# Altium integrated library Linear Technology Power Management System Supervisor, Monitor and Control.IntLib: 1611 symbols (part 28 of 100)
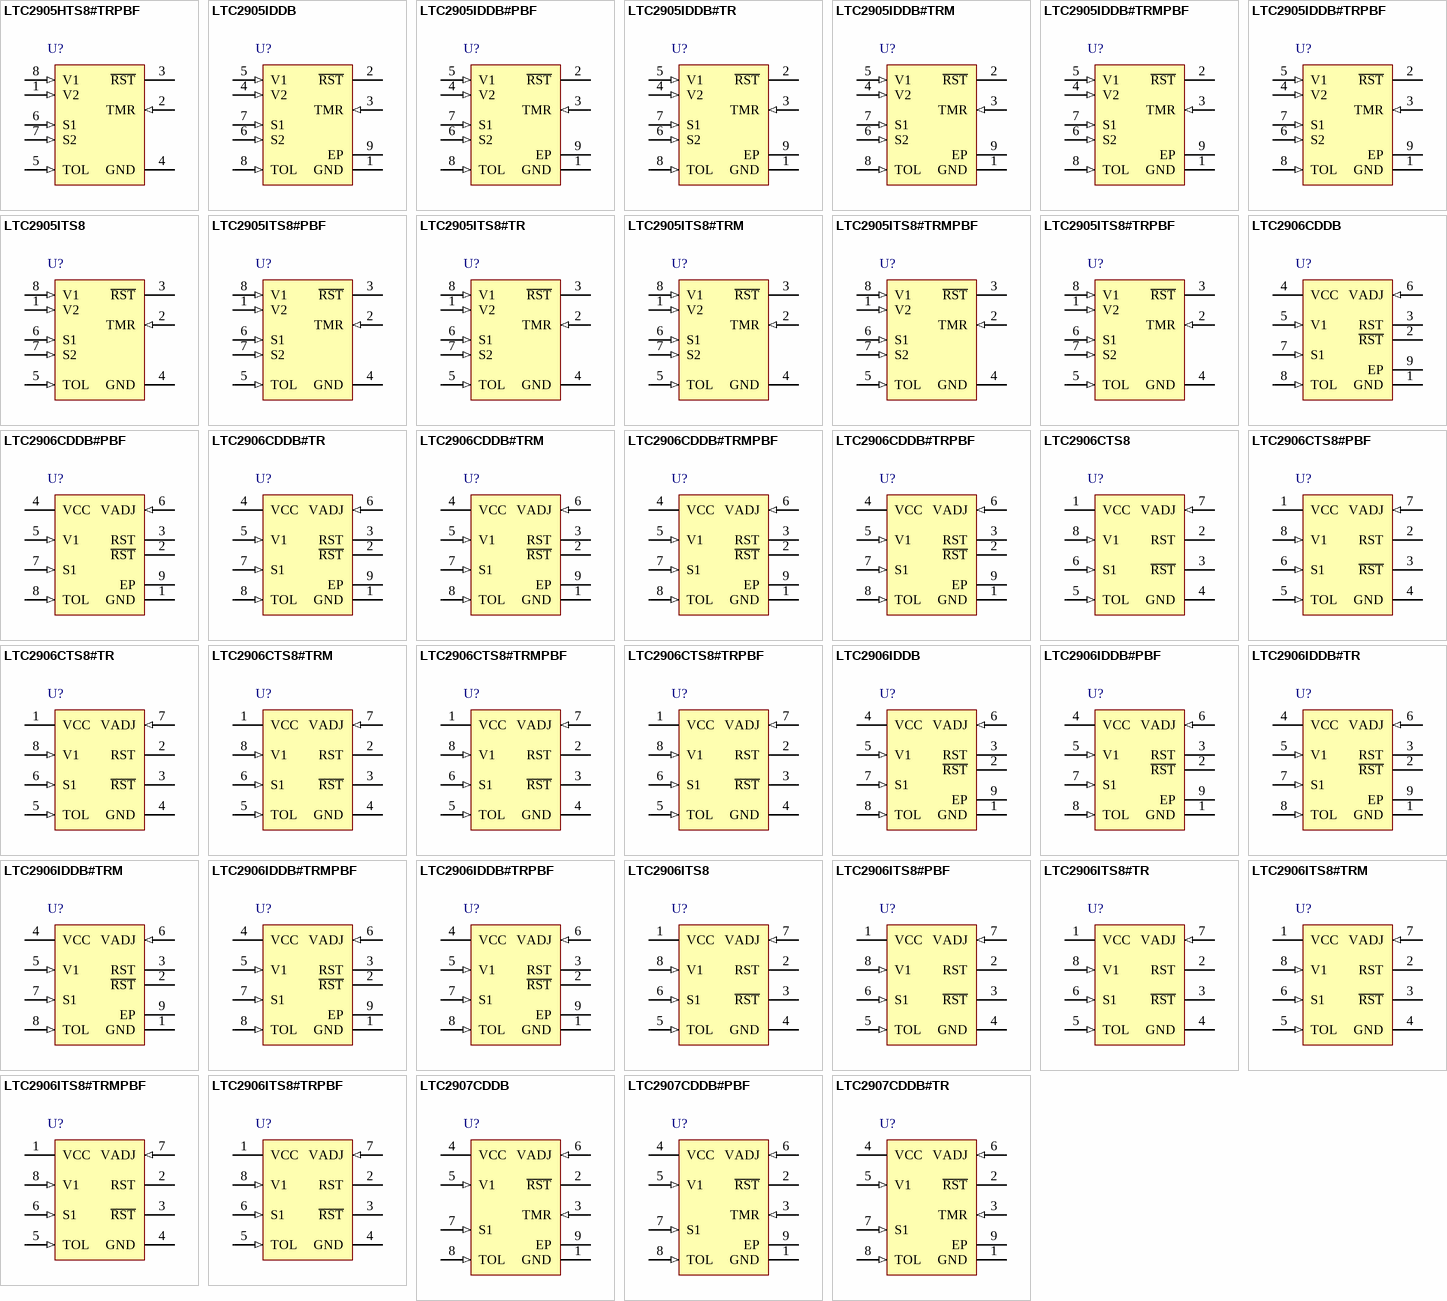
[diagram p72: symbols LTC2905HTS8#TRPBF to LTC2907CDDB#TR]

## LTC2906ITS8#TRMPBF
designator U?
Precision Dual Supply Monitor with One Pin-Selectable Threshold and One Adjustable Input, 8-pin SOT23 (TS8-8), -40 to 85 degC, Pb-Free, Mini Tape and Reel; Manufacturer: Linear Technology; PartNumber: LTC2906ITS8#TRMPBF; Number of Supplies(#): 2; PackageVersion: Rev. A, 08/2010; PackageReference: TS8-8; PackageDescription: 8-Pin Plastic TSOT-23, Body 2.9 x 1.63 mm, Pitch 0.65 mm; Supplier 1: Digi-Key; Supplier Part Number 1: LTC2906ITS8#TRMPBF-ND; Packing: Mini Tape and Reel; RoHS: TRUE; Mounting Technology: Surface Mount; Code_JEDEC: MO-193; ComponentLink1Description: Manufacturer URL; ComponentLink1URL: http://www.linear.com/; ComponentLink2Description: Datasheet; ComponentLink2URL: http://cds.linear.com/docs/en/datasheet/29067f.pdf; ComponentLink3Description: Package Specification; ComponentLink3URL: http://cds.linear.com/docs/en/packaging/SOT_8_05-08-1637.pdf
footprint LT-TS8-8-TSOT-23_V (SOT23, 8-Leads, Body 2.9x1.75mm, Pitch 0.65mm)
pins: 1 VCC (power) "Optional Power Supply Pin. VCC powers and maintains the correct operation of the RST and R\S\T\ pins in the complete absence of V1. If V1 is present, the greater of VCC or V1 (VMAX) powers the internal circuitry and the (See Datasheet)", 2 RST (oc) "(LTC2906 Only) Reset Logic Output. When all voltage inputs are above the reset threshold for at least the programmed delay time, this pin pulls low. This pin has a weak pull up to VMAX and may be pulled above VMAX using an (See Datasheet)", 3 ~{RST} (oc) "Inverted Reset Logic Output. Pulls low when either V1 or VADJ is below the reset threshold and holds low for programmed delay time after all voltage inputs are above threshold. This pin has a weak pull up to VMAX and may be (See Datasheet)", 4 GND (power) "Ground.", 5 TOL (in) "Three-State Input for Supply Tolerance Selection (5%, 7.5% or 10%). Refer to Applications Information for tolerance selection chart (Table 3).", 6 S1 (in) "The Voltage Threshold Select Three- State Input. Connect to V1, GND or leave unconnected in open state to select one of three possible input threshold levels (refer to Table 1).", 7 VADJ (in) "Adjustable Voltage Input. Bypass this pin to ground with a 0.1uF (or greater) capacitor in a noisy environment.", 8 V1 (in) "Voltage Input 1. Select from 5V, 3.3V or 2.5V. Refer to Table 1 for details. The greater of (V1, VCC) is also the internal VCC (VMAX). Bypass this pin to ground with a 0.1uF (or greater) capacitor."

## LTC2906ITS8#TRPBF
designator U?
Precision Dual Supply Monitor with One Pin-Selectable Threshold and One Adjustable Input, 8-pin SOT23 (TS8-8), -40 to 85 degC, Pb-Free, Tape and Reel; Manufacturer: Linear Technology; PartNumber: LTC2906ITS8#TRPBF; Number of Supplies(#): 2; PackageVersion: Rev. A, 08/2010; PackageReference: TS8-8; PackageDescription: 8-Pin Plastic TSOT-23, Body 2.9 x 1.63 mm, Pitch 0.65 mm; Supplier 1: Digi-Key; Supplier Part Number 1: LTC2906ITS8#TRPBF-ND; Supplier 2: Newark; Supplier Part Number 2: 56M6706; Packing: Tape and Reel; RoHS: TRUE; Mounting Technology: Surface Mount; Code_JEDEC: MO-193; ComponentLink1Description: Manufacturer URL; ComponentLink1URL: http://www.linear.com/; ComponentLink2Description: Datasheet; ComponentLink2URL: http://cds.linear.com/docs/en/datasheet/29067f.pdf; ComponentLink3Description: Package Specification; ComponentLink3URL: http://cds.linear.com/docs/en/packaging/SOT_8_05-08-1637.pdf
footprint LT-TS8-8-TSOT-23_V (SOT23, 8-Leads, Body 2.9x1.75mm, Pitch 0.65mm)
pins: 1 VCC (power) "Optional Power Supply Pin. VCC powers and maintains the correct operation of the RST and R\S\T\ pins in the complete absence of V1. If V1 is present, the greater of VCC or V1 (VMAX) powers the internal circuitry and the (See Datasheet)", 2 RST (oc) "(LTC2906 Only) Reset Logic Output. When all voltage inputs are above the reset threshold for at least the programmed delay time, this pin pulls low. This pin has a weak pull up to VMAX and may be pulled above VMAX using an (See Datasheet)", 3 ~{RST} (oc) "Inverted Reset Logic Output. Pulls low when either V1 or VADJ is below the reset threshold and holds low for programmed delay time after all voltage inputs are above threshold. This pin has a weak pull up to VMAX and may be (See Datasheet)", 4 GND (power) "Ground.", 5 TOL (in) "Three-State Input for Supply Tolerance Selection (5%, 7.5% or 10%). Refer to Applications Information for tolerance selection chart (Table 3).", 6 S1 (in) "The Voltage Threshold Select Three- State Input. Connect to V1, GND or leave unconnected in open state to select one of three possible input threshold levels (refer to Table 1).", 7 VADJ (in) "Adjustable Voltage Input. Bypass this pin to ground with a 0.1uF (or greater) capacitor in a noisy environment.", 8 V1 (in) "Voltage Input 1. Select from 5V, 3.3V or 2.5V. Refer to Table 1 for details. The greater of (V1, VCC) is also the internal VCC (VMAX). Bypass this pin to ground with a 0.1uF (or greater) capacitor."

## LTC2907CDDB
designator U?
Precision Dual Supply Monitor with One Pin-Selectable Threshold and One Adjustable Input, 8-pin SON (DDB-8), 0 to 70 degC; Manufacturer: Linear Technology; PartNumber: LTC2907CDDB; Number of Supplies(#): 2; PackageVersion: Rev. B, 06/2010; PackageReference: DDB-8; PackageDescription: 8-Pin Plastic DFN, Body 3 x 2 mm, Pitch 0.5 mm; RoHS: FALSE; Mounting Technology: Surface Mount; Code_JEDEC: MO-229; ComponentLink1Description: Manufacturer URL; ComponentLink1URL: http://www.linear.com/; ComponentLink2Description: Datasheet; ComponentLink2URL: http://cds.linear.com/docs/en/datasheet/29067f.pdf; ComponentLink3Description: Package Specification; ComponentLink3URL: http://cds.linear.com/docs/en/packaging/DFN_8_05-08-1702.pdf
footprint LT-DDB-8_V (SON, 8-Leads, Body 3x2mm, Pitch 0.5mm, Thermal Pad 2.2x0.61mm)
pins: 1 GND (power) "Ground.", 2 ~{RST} (oc) "Inverted Reset Logic Output. Pulls low when either V1 or VADJ is below the reset threshold and holds low for programmed delay time after all voltage inputs are above threshold. This pin has a weak pull up to VMAX and may be (See Datasheet)", 3 TMR (in) "(LTC2907 Only) Reset Delay Time Programming Pin. Attach an external capacitor (CTMR) to GND to set a reset delay time of 9ms/nF. Leaving the pin open generates a minimum delay of approximately 200ms. A 22nF capacitor will (See Datasheet)", 4 VCC (power) "Optional Power Supply Pin. VCC powers and maintains the correct operation of the RST and R\S\T\ pins in the complete absence of V1. If V1 is present, the greater of VCC or V1 (VMAX) powers the internal circuitry and the (See Datasheet)", 5 V1 (in) "Voltage Input 1. Select from 5V, 3.3V or 2.5V. Refer to Table 1 for details. The greater of (V1, VCC) is also the internal VCC (VMAX). Bypass this pin to ground with a 0.1uF (or greater) capacitor.", 6 VADJ (in) "Adjustable Voltage Input. Bypass this pin to ground with a 0.1uF (or greater) capacitor in a noisy environment.", 7 S1 (in) "The Voltage Threshold Select Three- State Input. Connect to V1, GND or leave unconnected in open state to select one of three possible input threshold levels (refer to Table 1).", 8 TOL (in) "Three-State Input for Supply Tolerance Selection (5%, 7.5% or 10%). Refer to Applications Information for tolerance selection chart (Table 3).", 9 EP (power) "Ground."

## LTC2907CDDB#PBF
designator U?
Precision Dual Supply Monitor with One Pin-Selectable Threshold and One Adjustable Input, 8-pin SON (DDB-8), 0 to 70 degC, Pb-Free; Manufacturer: Linear Technology; PartNumber: LTC2907CDDB#PBF; Number of Supplies(#): 2; PackageVersion: Rev. B, 06/2010; PackageReference: DDB-8; PackageDescription: 8-Pin Plastic DFN, Body 3 x 2 mm, Pitch 0.5 mm; Supplier 1: Newark; Supplier Part Number 1: 78T3006; RoHS: TRUE; Mounting Technology: Surface Mount; Code_JEDEC: MO-229; ComponentLink1Description: Manufacturer URL; ComponentLink1URL: http://www.linear.com/; ComponentLink2Description: Datasheet; ComponentLink2URL: http://cds.linear.com/docs/en/datasheet/29067f.pdf; ComponentLink3Description: Package Specification; ComponentLink3URL: http://cds.linear.com/docs/en/packaging/DFN_8_05-08-1702.pdf
footprint LT-DDB-8_V (SON, 8-Leads, Body 3x2mm, Pitch 0.5mm, Thermal Pad 2.2x0.61mm)
pins: 1 GND (power) "Ground.", 2 ~{RST} (oc) "Inverted Reset Logic Output. Pulls low when either V1 or VADJ is below the reset threshold and holds low for programmed delay time after all voltage inputs are above threshold. This pin has a weak pull up to VMAX and may be (See Datasheet)", 3 TMR (in) "(LTC2907 Only) Reset Delay Time Programming Pin. Attach an external capacitor (CTMR) to GND to set a reset delay time of 9ms/nF. Leaving the pin open generates a minimum delay of approximately 200ms. A 22nF capacitor will (See Datasheet)", 4 VCC (power) "Optional Power Supply Pin. VCC powers and maintains the correct operation of the RST and R\S\T\ pins in the complete absence of V1. If V1 is present, the greater of VCC or V1 (VMAX) powers the internal circuitry and the (See Datasheet)", 5 V1 (in) "Voltage Input 1. Select from 5V, 3.3V or 2.5V. Refer to Table 1 for details. The greater of (V1, VCC) is also the internal VCC (VMAX). Bypass this pin to ground with a 0.1uF (or greater) capacitor.", 6 VADJ (in) "Adjustable Voltage Input. Bypass this pin to ground with a 0.1uF (or greater) capacitor in a noisy environment.", 7 S1 (in) "The Voltage Threshold Select Three- State Input. Connect to V1, GND or leave unconnected in open state to select one of three possible input threshold levels (refer to Table 1).", 8 TOL (in) "Three-State Input for Supply Tolerance Selection (5%, 7.5% or 10%). Refer to Applications Information for tolerance selection chart (Table 3).", 9 EP (power) "Ground."

## LTC2907CDDB#TR
designator U?
Precision Dual Supply Monitor with One Pin-Selectable Threshold and One Adjustable Input, 8-pin SON (DDB-8), 0 to 70 degC, Tape and Reel; Manufacturer: Linear Technology; PartNumber: LTC2907CDDB#TR; Number of Supplies(#): 2; PackageVersion: Rev. B, 06/2010; PackageReference: DDB-8; PackageDescription: 8-Pin Plastic DFN, Body 3 x 2 mm, Pitch 0.5 mm; Supplier 1: Digi-Key; Supplier Part Number 1: LTC2907CDDB#TR-ND; Packing: Tape and Reel; RoHS: FALSE; Mounting Technology: Surface Mount; Code_JEDEC: MO-229; ComponentLink1Description: Manufacturer URL; ComponentLink1URL: http://www.linear.com/; ComponentLink2Description: Datasheet; ComponentLink2URL: http://cds.linear.com/docs/en/datasheet/29067f.pdf; ComponentLink3Description: Package Specification; ComponentLink3URL: http://cds.linear.com/docs/en/packaging/DFN_8_05-08-1702.pdf
footprint LT-DDB-8_V (SON, 8-Leads, Body 3x2mm, Pitch 0.5mm, Thermal Pad 2.2x0.61mm)
pins: 1 GND (power) "Ground.", 2 ~{RST} (oc) "Inverted Reset Logic Output. Pulls low when either V1 or VADJ is below the reset threshold and holds low for programmed delay time after all voltage inputs are above threshold. This pin has a weak pull up to VMAX and may be (See Datasheet)", 3 TMR (in) "(LTC2907 Only) Reset Delay Time Programming Pin. Attach an external capacitor (CTMR) to GND to set a reset delay time of 9ms/nF. Leaving the pin open generates a minimum delay of approximately 200ms. A 22nF capacitor will (See Datasheet)", 4 VCC (power) "Optional Power Supply Pin. VCC powers and maintains the correct operation of the RST and R\S\T\ pins in the complete absence of V1. If V1 is present, the greater of VCC or V1 (VMAX) powers the internal circuitry and the (See Datasheet)", 5 V1 (in) "Voltage Input 1. Select from 5V, 3.3V or 2.5V. Refer to Table 1 for details. The greater of (V1, VCC) is also the internal VCC (VMAX). Bypass this pin to ground with a 0.1uF (or greater) capacitor.", 6 VADJ (in) "Adjustable Voltage Input. Bypass this pin to ground with a 0.1uF (or greater) capacitor in a noisy environment.", 7 S1 (in) "The Voltage Threshold Select Three- State Input. Connect to V1, GND or leave unconnected in open state to select one of three possible input threshold levels (refer to Table 1).", 8 TOL (in) "Three-State Input for Supply Tolerance Selection (5%, 7.5% or 10%). Refer to Applications Information for tolerance selection chart (Table 3).", 9 EP (power) "Ground."

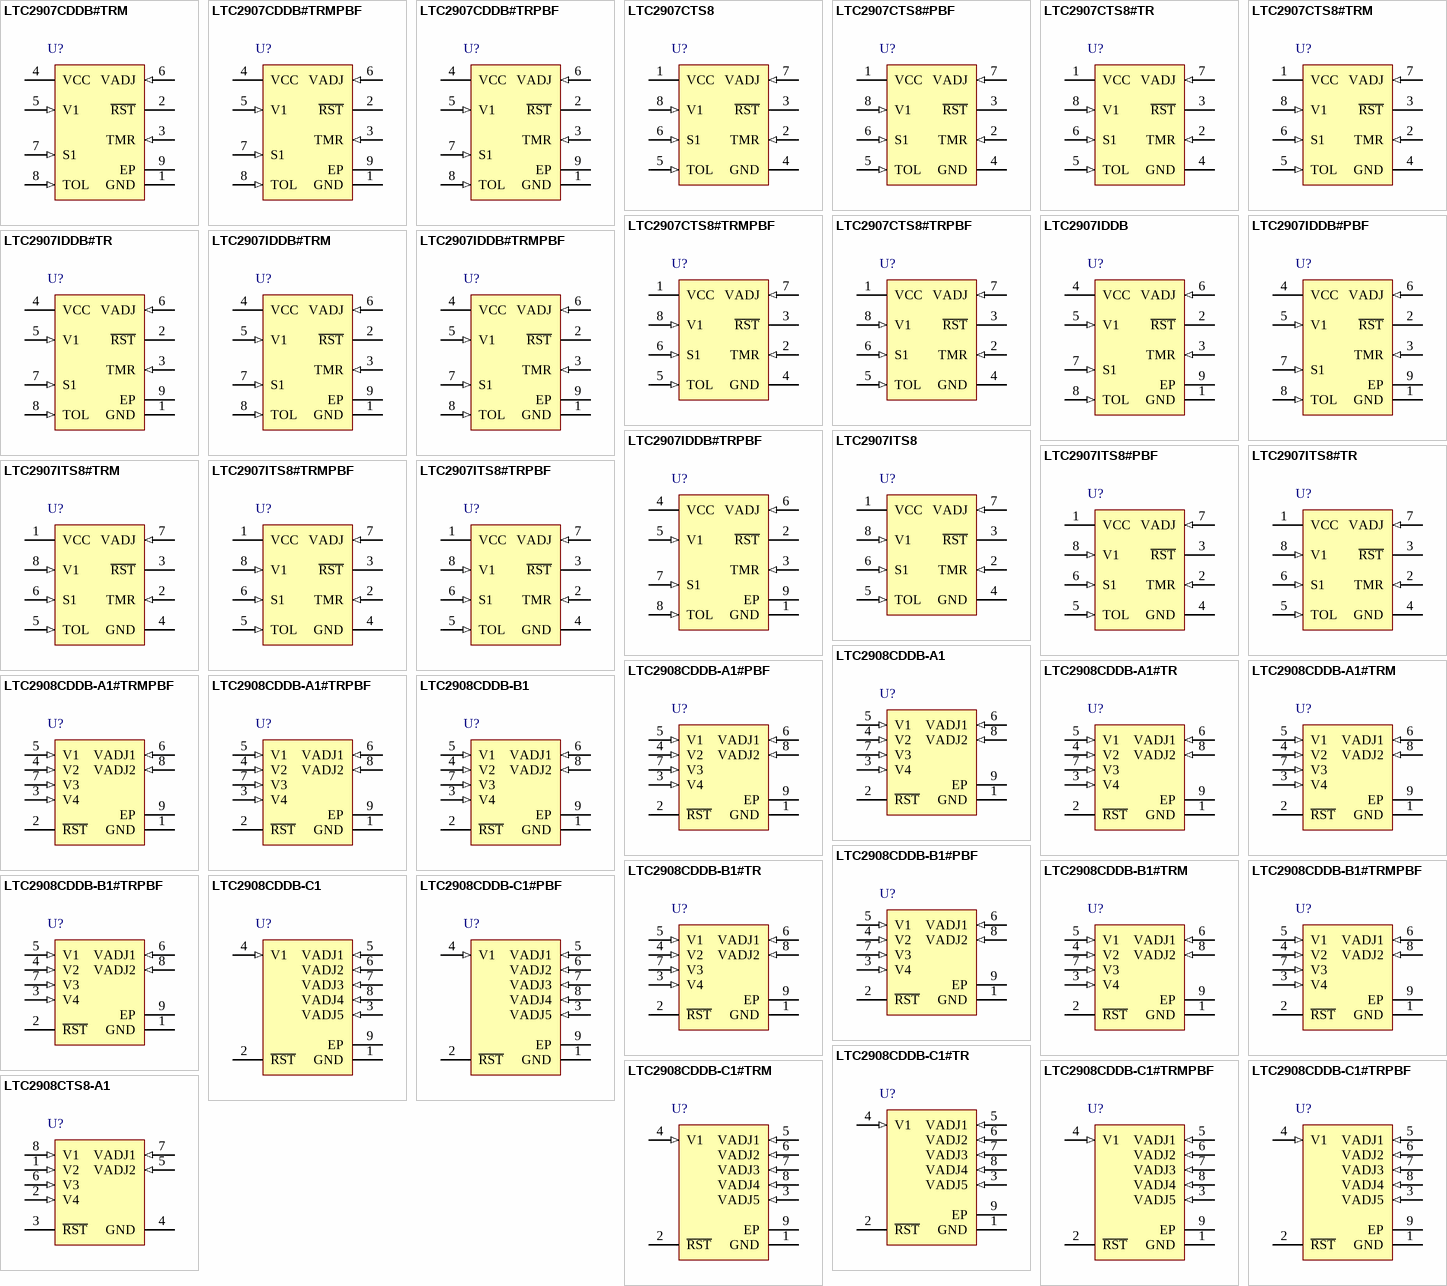
[diagram p14: symbols LTC2907CDDB#TRM to LTC2908CTS8-A1]

## LTC2907CDDB#TRM
designator U?
Precision Dual Supply Monitor with One Pin-Selectable Threshold and One Adjustable Input, 8-pin SON (DDB-8), 0 to 70 degC, Mini Tape and Reel; Manufacturer: Linear Technology; PartNumber: LTC2907CDDB#TRM; Number of Supplies(#): 2; PackageVersion: Rev. B, 06/2010; PackageReference: DDB-8; PackageDescription: 8-Pin Plastic DFN, Body 3 x 2 mm, Pitch 0.5 mm; Packing: Mini Tape and Reel; RoHS: FALSE; Mounting Technology: Surface Mount; Code_JEDEC: MO-229; ComponentLink1Description: Manufacturer URL; ComponentLink1URL: http://www.linear.com/; ComponentLink2Description: Datasheet; ComponentLink2URL: http://cds.linear.com/docs/en/datasheet/29067f.pdf; ComponentLink3Description: Package Specification; ComponentLink3URL: http://cds.linear.com/docs/en/packaging/DFN_8_05-08-1702.pdf
footprint LT-DDB-8_V (SON, 8-Leads, Body 3x2mm, Pitch 0.5mm, Thermal Pad 2.2x0.61mm)
pins: 1 GND (power) "Ground.", 2 ~{RST} (oc) "Inverted Reset Logic Output. Pulls low when either V1 or VADJ is below the reset threshold and holds low for programmed delay time after all voltage inputs are above threshold. This pin has a weak pull up to VMAX and may be (See Datasheet)", 3 TMR (in) "(LTC2907 Only) Reset Delay Time Programming Pin. Attach an external capacitor (CTMR) to GND to set a reset delay time of 9ms/nF. Leaving the pin open generates a minimum delay of approximately 200ms. A 22nF capacitor will (See Datasheet)", 4 VCC (power) "Optional Power Supply Pin. VCC powers and maintains the correct operation of the RST and R\S\T\ pins in the complete absence of V1. If V1 is present, the greater of VCC or V1 (VMAX) powers the internal circuitry and the (See Datasheet)", 5 V1 (in) "Voltage Input 1. Select from 5V, 3.3V or 2.5V. Refer to Table 1 for details. The greater of (V1, VCC) is also the internal VCC (VMAX). Bypass this pin to ground with a 0.1uF (or greater) capacitor.", 6 VADJ (in) "Adjustable Voltage Input. Bypass this pin to ground with a 0.1uF (or greater) capacitor in a noisy environment.", 7 S1 (in) "The Voltage Threshold Select Three- State Input. Connect to V1, GND or leave unconnected in open state to select one of three possible input threshold levels (refer to Table 1).", 8 TOL (in) "Three-State Input for Supply Tolerance Selection (5%, 7.5% or 10%). Refer to Applications Information for tolerance selection chart (Table 3).", 9 EP (power) "Ground."

## LTC2907CDDB#TRMPBF
designator U?
Precision Dual Supply Monitor with One Pin-Selectable Threshold and One Adjustable Input, 8-pin SON (DDB-8), 0 to 70 degC, Pb-Free, Mini Tape and Reel; Manufacturer: Linear Technology; PartNumber: LTC2907CDDB#TRMPBF; Number of Supplies(#): 2; PackageVersion: Rev. B, 06/2010; PackageReference: DDB-8; PackageDescription: 8-Pin Plastic DFN, Body 3 x 2 mm, Pitch 0.5 mm; Supplier 1: Digi-Key; Supplier Part Number 1: LTC2907CDDB#TRMPBF-ND; Packing: Mini Tape and Reel; RoHS: TRUE; Mounting Technology: Surface Mount; Code_JEDEC: MO-229; ComponentLink1Description: Manufacturer URL; ComponentLink1URL: http://www.linear.com/; ComponentLink2Description: Datasheet; ComponentLink2URL: http://cds.linear.com/docs/en/datasheet/29067f.pdf; ComponentLink3Description: Package Specification; ComponentLink3URL: http://cds.linear.com/docs/en/packaging/DFN_8_05-08-1702.pdf
footprint LT-DDB-8_V (SON, 8-Leads, Body 3x2mm, Pitch 0.5mm, Thermal Pad 2.2x0.61mm)
pins: 1 GND (power) "Ground.", 2 ~{RST} (oc) "Inverted Reset Logic Output. Pulls low when either V1 or VADJ is below the reset threshold and holds low for programmed delay time after all voltage inputs are above threshold. This pin has a weak pull up to VMAX and may be (See Datasheet)", 3 TMR (in) "(LTC2907 Only) Reset Delay Time Programming Pin. Attach an external capacitor (CTMR) to GND to set a reset delay time of 9ms/nF. Leaving the pin open generates a minimum delay of approximately 200ms. A 22nF capacitor will (See Datasheet)", 4 VCC (power) "Optional Power Supply Pin. VCC powers and maintains the correct operation of the RST and R\S\T\ pins in the complete absence of V1. If V1 is present, the greater of VCC or V1 (VMAX) powers the internal circuitry and the (See Datasheet)", 5 V1 (in) "Voltage Input 1. Select from 5V, 3.3V or 2.5V. Refer to Table 1 for details. The greater of (V1, VCC) is also the internal VCC (VMAX). Bypass this pin to ground with a 0.1uF (or greater) capacitor.", 6 VADJ (in) "Adjustable Voltage Input. Bypass this pin to ground with a 0.1uF (or greater) capacitor in a noisy environment.", 7 S1 (in) "The Voltage Threshold Select Three- State Input. Connect to V1, GND or leave unconnected in open state to select one of three possible input threshold levels (refer to Table 1).", 8 TOL (in) "Three-State Input for Supply Tolerance Selection (5%, 7.5% or 10%). Refer to Applications Information for tolerance selection chart (Table 3).", 9 EP (power) "Ground."

## LTC2907CDDB#TRPBF
designator U?
Precision Dual Supply Monitor with One Pin-Selectable Threshold and One Adjustable Input, 8-pin SON (DDB-8), 0 to 70 degC, Pb-Free, Tape and Reel; Manufacturer: Linear Technology; PartNumber: LTC2907CDDB#TRPBF; Number of Supplies(#): 2; PackageVersion: Rev. B, 06/2010; PackageReference: DDB-8; PackageDescription: 8-Pin Plastic DFN, Body 3 x 2 mm, Pitch 0.5 mm; Supplier 1: Digi-Key; Supplier Part Number 1: LTC2907CDDB#TRPBF-ND; Packing: Tape and Reel; RoHS: TRUE; Mounting Technology: Surface Mount; Code_JEDEC: MO-229; ComponentLink1Description: Manufacturer URL; ComponentLink1URL: http://www.linear.com/; ComponentLink2Description: Datasheet; ComponentLink2URL: http://cds.linear.com/docs/en/datasheet/29067f.pdf; ComponentLink3Description: Package Specification; ComponentLink3URL: http://cds.linear.com/docs/en/packaging/DFN_8_05-08-1702.pdf
footprint LT-DDB-8_V (SON, 8-Leads, Body 3x2mm, Pitch 0.5mm, Thermal Pad 2.2x0.61mm)
pins: 1 GND (power) "Ground.", 2 ~{RST} (oc) "Inverted Reset Logic Output. Pulls low when either V1 or VADJ is below the reset threshold and holds low for programmed delay time after all voltage inputs are above threshold. This pin has a weak pull up to VMAX and may be (See Datasheet)", 3 TMR (in) "(LTC2907 Only) Reset Delay Time Programming Pin. Attach an external capacitor (CTMR) to GND to set a reset delay time of 9ms/nF. Leaving the pin open generates a minimum delay of approximately 200ms. A 22nF capacitor will (See Datasheet)", 4 VCC (power) "Optional Power Supply Pin. VCC powers and maintains the correct operation of the RST and R\S\T\ pins in the complete absence of V1. If V1 is present, the greater of VCC or V1 (VMAX) powers the internal circuitry and the (See Datasheet)", 5 V1 (in) "Voltage Input 1. Select from 5V, 3.3V or 2.5V. Refer to Table 1 for details. The greater of (V1, VCC) is also the internal VCC (VMAX). Bypass this pin to ground with a 0.1uF (or greater) capacitor.", 6 VADJ (in) "Adjustable Voltage Input. Bypass this pin to ground with a 0.1uF (or greater) capacitor in a noisy environment.", 7 S1 (in) "The Voltage Threshold Select Three- State Input. Connect to V1, GND or leave unconnected in open state to select one of three possible input threshold levels (refer to Table 1).", 8 TOL (in) "Three-State Input for Supply Tolerance Selection (5%, 7.5% or 10%). Refer to Applications Information for tolerance selection chart (Table 3).", 9 EP (power) "Ground."

## LTC2907CTS8
designator U?
Precision Dual Supply Monitor with One Pin-Selectable Threshold and One Adjustable Input, 8-pin SOT23 (TS8-8), 0 to 70 degC; Manufacturer: Linear Technology; PartNumber: LTC2907CTS8; Number of Supplies(#): 2; PackageVersion: Rev. A, 08/2010; PackageReference: TS8-8; PackageDescription: 8-Pin Plastic TSOT-23, Body 2.9 x 1.63 mm, Pitch 0.65 mm; RoHS: FALSE; Mounting Technology: Surface Mount; Code_JEDEC: MO-193; ComponentLink1Description: Manufacturer URL; ComponentLink1URL: http://www.linear.com/; ComponentLink2Description: Datasheet; ComponentLink2URL: http://cds.linear.com/docs/en/datasheet/29067f.pdf; ComponentLink3Description: Package Specification; ComponentLink3URL: http://cds.linear.com/docs/en/packaging/SOT_8_05-08-1637.pdf
footprint LT-TS8-8-TSOT-23_V (SOT23, 8-Leads, Body 2.9x1.75mm, Pitch 0.65mm)
pins: 1 VCC (power) "Optional Power Supply Pin. VCC powers and maintains the correct operation of the RST and R\S\T\ pins in the complete absence of V1. If V1 is present, the greater of VCC or V1 (VMAX) powers the internal circuitry and the (See Datasheet)", 2 TMR (in) "(LTC2907 Only) Reset Delay Time Programming Pin. Attach an external capacitor (CTMR) to GND to set a reset delay time of 9ms/nF. Leaving the pin open generates a minimum delay of approximately 200ms. A 22nF capacitor will (See Datasheet)", 3 ~{RST} (oc) "Inverted Reset Logic Output. Pulls low when either V1 or VADJ is below the reset threshold and holds low for programmed delay time after all voltage inputs are above threshold. This pin has a weak pull up to VMAX and may be (See Datasheet)", 4 GND (power) "Ground.", 5 TOL (in) "Three-State Input for Supply Tolerance Selection (5%, 7.5% or 10%). Refer to Applications Information for tolerance selection chart (Table 3).", 6 S1 (in) "The Voltage Threshold Select Three- State Input. Connect to V1, GND or leave unconnected in open state to select one of three possible input threshold levels (refer to Table 1).", 7 VADJ (in) "Adjustable Voltage Input. Bypass this pin to ground with a 0.1uF (or greater) capacitor in a noisy environment.", 8 V1 (in) "Voltage Input 1. Select from 5V, 3.3V or 2.5V. Refer to Table 1 for details. The greater of (V1, VCC) is also the internal VCC (VMAX). Bypass this pin to ground with a 0.1uF (or greater) capacitor."

## LTC2907CTS8#PBF
designator U?
Precision Dual Supply Monitor with One Pin-Selectable Threshold and One Adjustable Input, 8-pin SOT23 (TS8-8), 0 to 70 degC, Pb-Free; Manufacturer: Linear Technology; PartNumber: LTC2907CTS8#PBF; Number of Supplies(#): 2; PackageVersion: Rev. A, 08/2010; PackageReference: TS8-8; PackageDescription: 8-Pin Plastic TSOT-23, Body 2.9 x 1.63 mm, Pitch 0.65 mm; Supplier 1: Farnell; Supplier Part Number 1: 2295409; RoHS: TRUE; Mounting Technology: Surface Mount; Code_JEDEC: MO-193; ComponentLink1Description: Manufacturer URL; ComponentLink1URL: http://www.linear.com/; ComponentLink2Description: Datasheet; ComponentLink2URL: http://cds.linear.com/docs/en/datasheet/29067f.pdf; ComponentLink3Description: Package Specification; ComponentLink3URL: http://cds.linear.com/docs/en/packaging/SOT_8_05-08-1637.pdf
footprint LT-TS8-8-TSOT-23_V (SOT23, 8-Leads, Body 2.9x1.75mm, Pitch 0.65mm)
pins: 1 VCC (power) "Optional Power Supply Pin. VCC powers and maintains the correct operation of the RST and R\S\T\ pins in the complete absence of V1. If V1 is present, the greater of VCC or V1 (VMAX) powers the internal circuitry and the (See Datasheet)", 2 TMR (in) "(LTC2907 Only) Reset Delay Time Programming Pin. Attach an external capacitor (CTMR) to GND to set a reset delay time of 9ms/nF. Leaving the pin open generates a minimum delay of approximately 200ms. A 22nF capacitor will (See Datasheet)", 3 ~{RST} (oc) "Inverted Reset Logic Output. Pulls low when either V1 or VADJ is below the reset threshold and holds low for programmed delay time after all voltage inputs are above threshold. This pin has a weak pull up to VMAX and may be (See Datasheet)", 4 GND (power) "Ground.", 5 TOL (in) "Three-State Input for Supply Tolerance Selection (5%, 7.5% or 10%). Refer to Applications Information for tolerance selection chart (Table 3).", 6 S1 (in) "The Voltage Threshold Select Three- State Input. Connect to V1, GND or leave unconnected in open state to select one of three possible input threshold levels (refer to Table 1).", 7 VADJ (in) "Adjustable Voltage Input. Bypass this pin to ground with a 0.1uF (or greater) capacitor in a noisy environment.", 8 V1 (in) "Voltage Input 1. Select from 5V, 3.3V or 2.5V. Refer to Table 1 for details. The greater of (V1, VCC) is also the internal VCC (VMAX). Bypass this pin to ground with a 0.1uF (or greater) capacitor."

## LTC2907CTS8#TR
designator U?
Precision Dual Supply Monitor with One Pin-Selectable Threshold and One Adjustable Input, 8-pin SOT23 (TS8-8), 0 to 70 degC, Tape and Reel; Manufacturer: Linear Technology; PartNumber: LTC2907CTS8#TR; Number of Supplies(#): 2; PackageVersion: Rev. A, 08/2010; PackageReference: TS8-8; PackageDescription: 8-Pin Plastic TSOT-23, Body 2.9 x 1.63 mm, Pitch 0.65 mm; Supplier 1: Digi-Key; Supplier Part Number 1: LTC2907CTS8#TR-ND; Packing: Tape and Reel; RoHS: FALSE; Mounting Technology: Surface Mount; Code_JEDEC: MO-193; ComponentLink1Description: Manufacturer URL; ComponentLink1URL: http://www.linear.com/; ComponentLink2Description: Datasheet; ComponentLink2URL: http://cds.linear.com/docs/en/datasheet/29067f.pdf; ComponentLink3Description: Package Specification; ComponentLink3URL: http://cds.linear.com/docs/en/packaging/SOT_8_05-08-1637.pdf
footprint LT-TS8-8-TSOT-23_V (SOT23, 8-Leads, Body 2.9x1.75mm, Pitch 0.65mm)
pins: 1 VCC (power) "Optional Power Supply Pin. VCC powers and maintains the correct operation of the RST and R\S\T\ pins in the complete absence of V1. If V1 is present, the greater of VCC or V1 (VMAX) powers the internal circuitry and the (See Datasheet)", 2 TMR (in) "(LTC2907 Only) Reset Delay Time Programming Pin. Attach an external capacitor (CTMR) to GND to set a reset delay time of 9ms/nF. Leaving the pin open generates a minimum delay of approximately 200ms. A 22nF capacitor will (See Datasheet)", 3 ~{RST} (oc) "Inverted Reset Logic Output. Pulls low when either V1 or VADJ is below the reset threshold and holds low for programmed delay time after all voltage inputs are above threshold. This pin has a weak pull up to VMAX and may be (See Datasheet)", 4 GND (power) "Ground.", 5 TOL (in) "Three-State Input for Supply Tolerance Selection (5%, 7.5% or 10%). Refer to Applications Information for tolerance selection chart (Table 3).", 6 S1 (in) "The Voltage Threshold Select Three- State Input. Connect to V1, GND or leave unconnected in open state to select one of three possible input threshold levels (refer to Table 1).", 7 VADJ (in) "Adjustable Voltage Input. Bypass this pin to ground with a 0.1uF (or greater) capacitor in a noisy environment.", 8 V1 (in) "Voltage Input 1. Select from 5V, 3.3V or 2.5V. Refer to Table 1 for details. The greater of (V1, VCC) is also the internal VCC (VMAX). Bypass this pin to ground with a 0.1uF (or greater) capacitor."

## LTC2907CTS8#TRM
designator U?
Precision Dual Supply Monitor with One Pin-Selectable Threshold and One Adjustable Input, 8-pin SOT23 (TS8-8), 0 to 70 degC, Mini Tape and Reel; Manufacturer: Linear Technology; PartNumber: LTC2907CTS8#TRM; Number of Supplies(#): 2; PackageVersion: Rev. A, 08/2010; PackageReference: TS8-8; PackageDescription: 8-Pin Plastic TSOT-23, Body 2.9 x 1.63 mm, Pitch 0.65 mm; Supplier 1: Digi-Key; Supplier Part Number 1: LTC2907CTS8#TRM-ND; Packing: Mini Tape and Reel; RoHS: FALSE; Mounting Technology: Surface Mount; Code_JEDEC: MO-193; ComponentLink1Description: Manufacturer URL; ComponentLink1URL: http://www.linear.com/; ComponentLink2Description: Datasheet; ComponentLink2URL: http://cds.linear.com/docs/en/datasheet/29067f.pdf; ComponentLink3Description: Package Specification; ComponentLink3URL: http://cds.linear.com/docs/en/packaging/SOT_8_05-08-1637.pdf
footprint LT-TS8-8-TSOT-23_V (SOT23, 8-Leads, Body 2.9x1.75mm, Pitch 0.65mm)
pins: 1 VCC (power) "Optional Power Supply Pin. VCC powers and maintains the correct operation of the RST and R\S\T\ pins in the complete absence of V1. If V1 is present, the greater of VCC or V1 (VMAX) powers the internal circuitry and the (See Datasheet)", 2 TMR (in) "(LTC2907 Only) Reset Delay Time Programming Pin. Attach an external capacitor (CTMR) to GND to set a reset delay time of 9ms/nF. Leaving the pin open generates a minimum delay of approximately 200ms. A 22nF capacitor will (See Datasheet)", 3 ~{RST} (oc) "Inverted Reset Logic Output. Pulls low when either V1 or VADJ is below the reset threshold and holds low for programmed delay time after all voltage inputs are above threshold. This pin has a weak pull up to VMAX and may be (See Datasheet)", 4 GND (power) "Ground.", 5 TOL (in) "Three-State Input for Supply Tolerance Selection (5%, 7.5% or 10%). Refer to Applications Information for tolerance selection chart (Table 3).", 6 S1 (in) "The Voltage Threshold Select Three- State Input. Connect to V1, GND or leave unconnected in open state to select one of three possible input threshold levels (refer to Table 1).", 7 VADJ (in) "Adjustable Voltage Input. Bypass this pin to ground with a 0.1uF (or greater) capacitor in a noisy environment.", 8 V1 (in) "Voltage Input 1. Select from 5V, 3.3V or 2.5V. Refer to Table 1 for details. The greater of (V1, VCC) is also the internal VCC (VMAX). Bypass this pin to ground with a 0.1uF (or greater) capacitor."

## LTC2907CTS8#TRMPBF
designator U?
Precision Dual Supply Monitor with One Pin-Selectable Threshold and One Adjustable Input, 8-pin SOT23 (TS8-8), 0 to 70 degC, Pb-Free, Mini Tape and Reel; Manufacturer: Linear Technology; PartNumber: LTC2907CTS8#TRMPBF; Number of Supplies(#): 2; PackageVersion: Rev. A, 08/2010; PackageReference: TS8-8; PackageDescription: 8-Pin Plastic TSOT-23, Body 2.9 x 1.63 mm, Pitch 0.65 mm; Supplier 1: Digi-Key; Supplier Part Number 1: LTC2907CTS8#TRMPBF-ND; Packing: Mini Tape and Reel; RoHS: TRUE; Mounting Technology: Surface Mount; Code_JEDEC: MO-193; ComponentLink1Description: Manufacturer URL; ComponentLink1URL: http://www.linear.com/; ComponentLink2Description: Datasheet; ComponentLink2URL: http://cds.linear.com/docs/en/datasheet/29067f.pdf; ComponentLink3Description: Package Specification; ComponentLink3URL: http://cds.linear.com/docs/en/packaging/SOT_8_05-08-1637.pdf
footprint LT-TS8-8-TSOT-23_V (SOT23, 8-Leads, Body 2.9x1.75mm, Pitch 0.65mm)
pins: 1 VCC (power) "Optional Power Supply Pin. VCC powers and maintains the correct operation of the RST and R\S\T\ pins in the complete absence of V1. If V1 is present, the greater of VCC or V1 (VMAX) powers the internal circuitry and the (See Datasheet)", 2 TMR (in) "(LTC2907 Only) Reset Delay Time Programming Pin. Attach an external capacitor (CTMR) to GND to set a reset delay time of 9ms/nF. Leaving the pin open generates a minimum delay of approximately 200ms. A 22nF capacitor will (See Datasheet)", 3 ~{RST} (oc) "Inverted Reset Logic Output. Pulls low when either V1 or VADJ is below the reset threshold and holds low for programmed delay time after all voltage inputs are above threshold. This pin has a weak pull up to VMAX and may be (See Datasheet)", 4 GND (power) "Ground.", 5 TOL (in) "Three-State Input for Supply Tolerance Selection (5%, 7.5% or 10%). Refer to Applications Information for tolerance selection chart (Table 3).", 6 S1 (in) "The Voltage Threshold Select Three- State Input. Connect to V1, GND or leave unconnected in open state to select one of three possible input threshold levels (refer to Table 1).", 7 VADJ (in) "Adjustable Voltage Input. Bypass this pin to ground with a 0.1uF (or greater) capacitor in a noisy environment.", 8 V1 (in) "Voltage Input 1. Select from 5V, 3.3V or 2.5V. Refer to Table 1 for details. The greater of (V1, VCC) is also the internal VCC (VMAX). Bypass this pin to ground with a 0.1uF (or greater) capacitor."

## LTC2907CTS8#TRPBF
designator U?
Precision Dual Supply Monitor with One Pin-Selectable Threshold and One Adjustable Input, 8-pin SOT23 (TS8-8), 0 to 70 degC, Pb-Free, Tape and Reel; Manufacturer: Linear Technology; PartNumber: LTC2907CTS8#TRPBF; Number of Supplies(#): 2; PackageVersion: Rev. A, 08/2010; PackageReference: TS8-8; PackageDescription: 8-Pin Plastic TSOT-23, Body 2.9 x 1.63 mm, Pitch 0.65 mm; Supplier 1: Digi-Key; Supplier Part Number 1: LTC2907CTS8#TRPBF-ND; Packing: Tape and Reel; RoHS: TRUE; Mounting Technology: Surface Mount; Code_JEDEC: MO-193; ComponentLink1Description: Manufacturer URL; ComponentLink1URL: http://www.linear.com/; ComponentLink2Description: Datasheet; ComponentLink2URL: http://cds.linear.com/docs/en/datasheet/29067f.pdf; ComponentLink3Description: Package Specification; ComponentLink3URL: http://cds.linear.com/docs/en/packaging/SOT_8_05-08-1637.pdf
footprint LT-TS8-8-TSOT-23_V (SOT23, 8-Leads, Body 2.9x1.75mm, Pitch 0.65mm)
pins: 1 VCC (power) "Optional Power Supply Pin. VCC powers and maintains the correct operation of the RST and R\S\T\ pins in the complete absence of V1. If V1 is present, the greater of VCC or V1 (VMAX) powers the internal circuitry and the (See Datasheet)", 2 TMR (in) "(LTC2907 Only) Reset Delay Time Programming Pin. Attach an external capacitor (CTMR) to GND to set a reset delay time of 9ms/nF. Leaving the pin open generates a minimum delay of approximately 200ms. A 22nF capacitor will (See Datasheet)", 3 ~{RST} (oc) "Inverted Reset Logic Output. Pulls low when either V1 or VADJ is below the reset threshold and holds low for programmed delay time after all voltage inputs are above threshold. This pin has a weak pull up to VMAX and may be (See Datasheet)", 4 GND (power) "Ground.", 5 TOL (in) "Three-State Input for Supply Tolerance Selection (5%, 7.5% or 10%). Refer to Applications Information for tolerance selection chart (Table 3).", 6 S1 (in) "The Voltage Threshold Select Three- State Input. Connect to V1, GND or leave unconnected in open state to select one of three possible input threshold levels (refer to Table 1).", 7 VADJ (in) "Adjustable Voltage Input. Bypass this pin to ground with a 0.1uF (or greater) capacitor in a noisy environment.", 8 V1 (in) "Voltage Input 1. Select from 5V, 3.3V or 2.5V. Refer to Table 1 for details. The greater of (V1, VCC) is also the internal VCC (VMAX). Bypass this pin to ground with a 0.1uF (or greater) capacitor."

## LTC2907IDDB
designator U?
Precision Dual Supply Monitor with One Pin-Selectable Threshold and One Adjustable Input, 8-pin SON (DDB-8), -40 to 85 degC; Manufacturer: Linear Technology; PartNumber: LTC2907IDDB; Number of Supplies(#): 2; PackageVersion: Rev. B, 06/2010; PackageReference: DDB-8; PackageDescription: 8-Pin Plastic DFN, Body 3 x 2 mm, Pitch 0.5 mm; RoHS: FALSE; Mounting Technology: Surface Mount; Code_JEDEC: MO-229; ComponentLink1Description: Manufacturer URL; ComponentLink1URL: http://www.linear.com/; ComponentLink2Description: Datasheet; ComponentLink2URL: http://cds.linear.com/docs/en/datasheet/29067f.pdf; ComponentLink3Description: Package Specification; ComponentLink3URL: http://cds.linear.com/docs/en/packaging/DFN_8_05-08-1702.pdf
footprint LT-DDB-8_V (SON, 8-Leads, Body 3x2mm, Pitch 0.5mm, Thermal Pad 2.2x0.61mm)
pins: 1 GND (power) "Ground.", 2 ~{RST} (oc) "Inverted Reset Logic Output. Pulls low when either V1 or VADJ is below the reset threshold and holds low for programmed delay time after all voltage inputs are above threshold. This pin has a weak pull up to VMAX and may be (See Datasheet)", 3 TMR (in) "(LTC2907 Only) Reset Delay Time Programming Pin. Attach an external capacitor (CTMR) to GND to set a reset delay time of 9ms/nF. Leaving the pin open generates a minimum delay of approximately 200ms. A 22nF capacitor will (See Datasheet)", 4 VCC (power) "Optional Power Supply Pin. VCC powers and maintains the correct operation of the RST and R\S\T\ pins in the complete absence of V1. If V1 is present, the greater of VCC or V1 (VMAX) powers the internal circuitry and the (See Datasheet)", 5 V1 (in) "Voltage Input 1. Select from 5V, 3.3V or 2.5V. Refer to Table 1 for details. The greater of (V1, VCC) is also the internal VCC (VMAX). Bypass this pin to ground with a 0.1uF (or greater) capacitor.", 6 VADJ (in) "Adjustable Voltage Input. Bypass this pin to ground with a 0.1uF (or greater) capacitor in a noisy environment.", 7 S1 (in) "The Voltage Threshold Select Three- State Input. Connect to V1, GND or leave unconnected in open state to select one of three possible input threshold levels (refer to Table 1).", 8 TOL (in) "Three-State Input for Supply Tolerance Selection (5%, 7.5% or 10%). Refer to Applications Information for tolerance selection chart (Table 3).", 9 EP (power) "Ground."

## LTC2907IDDB#PBF
designator U?
Precision Dual Supply Monitor with One Pin-Selectable Threshold and One Adjustable Input, 8-pin SON (DDB-8), -40 to 85 degC, Pb-Free; Manufacturer: Linear Technology; PartNumber: LTC2907IDDB#PBF; Number of Supplies(#): 2; PackageVersion: Rev. B, 06/2010; PackageReference: DDB-8; PackageDescription: 8-Pin Plastic DFN, Body 3 x 2 mm, Pitch 0.5 mm; RoHS: TRUE; Mounting Technology: Surface Mount; Code_JEDEC: MO-229; ComponentLink1Description: Manufacturer URL; ComponentLink1URL: http://www.linear.com/; ComponentLink2Description: Datasheet; ComponentLink2URL: http://cds.linear.com/docs/en/datasheet/29067f.pdf; ComponentLink3Description: Package Specification; ComponentLink3URL: http://cds.linear.com/docs/en/packaging/DFN_8_05-08-1702.pdf
footprint LT-DDB-8_V (SON, 8-Leads, Body 3x2mm, Pitch 0.5mm, Thermal Pad 2.2x0.61mm)
pins: 1 GND (power) "Ground.", 2 ~{RST} (oc) "Inverted Reset Logic Output. Pulls low when either V1 or VADJ is below the reset threshold and holds low for programmed delay time after all voltage inputs are above threshold. This pin has a weak pull up to VMAX and may be (See Datasheet)", 3 TMR (in) "(LTC2907 Only) Reset Delay Time Programming Pin. Attach an external capacitor (CTMR) to GND to set a reset delay time of 9ms/nF. Leaving the pin open generates a minimum delay of approximately 200ms. A 22nF capacitor will (See Datasheet)", 4 VCC (power) "Optional Power Supply Pin. VCC powers and maintains the correct operation of the RST and R\S\T\ pins in the complete absence of V1. If V1 is present, the greater of VCC or V1 (VMAX) powers the internal circuitry and the (See Datasheet)", 5 V1 (in) "Voltage Input 1. Select from 5V, 3.3V or 2.5V. Refer to Table 1 for details. The greater of (V1, VCC) is also the internal VCC (VMAX). Bypass this pin to ground with a 0.1uF (or greater) capacitor.", 6 VADJ (in) "Adjustable Voltage Input. Bypass this pin to ground with a 0.1uF (or greater) capacitor in a noisy environment.", 7 S1 (in) "The Voltage Threshold Select Three- State Input. Connect to V1, GND or leave unconnected in open state to select one of three possible input threshold levels (refer to Table 1).", 8 TOL (in) "Three-State Input for Supply Tolerance Selection (5%, 7.5% or 10%). Refer to Applications Information for tolerance selection chart (Table 3).", 9 EP (power) "Ground."

## LTC2907IDDB#TR
designator U?
Precision Dual Supply Monitor with One Pin-Selectable Threshold and One Adjustable Input, 8-pin SON (DDB-8), -40 to 85 degC, Tape and Reel; Manufacturer: Linear Technology; PartNumber: LTC2907IDDB#TR; Number of Supplies(#): 2; PackageVersion: Rev. B, 06/2010; PackageReference: DDB-8; PackageDescription: 8-Pin Plastic DFN, Body 3 x 2 mm, Pitch 0.5 mm; Supplier 1: Digi-Key; Supplier Part Number 1: LTC2907IDDB#TR-ND; Packing: Tape and Reel; RoHS: FALSE; Mounting Technology: Surface Mount; Code_JEDEC: MO-229; ComponentLink1Description: Manufacturer URL; ComponentLink1URL: http://www.linear.com/; ComponentLink2Description: Datasheet; ComponentLink2URL: http://cds.linear.com/docs/en/datasheet/29067f.pdf; ComponentLink3Description: Package Specification; ComponentLink3URL: http://cds.linear.com/docs/en/packaging/DFN_8_05-08-1702.pdf
footprint LT-DDB-8_V (SON, 8-Leads, Body 3x2mm, Pitch 0.5mm, Thermal Pad 2.2x0.61mm)
pins: 1 GND (power) "Ground.", 2 ~{RST} (oc) "Inverted Reset Logic Output. Pulls low when either V1 or VADJ is below the reset threshold and holds low for programmed delay time after all voltage inputs are above threshold. This pin has a weak pull up to VMAX and may be (See Datasheet)", 3 TMR (in) "(LTC2907 Only) Reset Delay Time Programming Pin. Attach an external capacitor (CTMR) to GND to set a reset delay time of 9ms/nF. Leaving the pin open generates a minimum delay of approximately 200ms. A 22nF capacitor will (See Datasheet)", 4 VCC (power) "Optional Power Supply Pin. VCC powers and maintains the correct operation of the RST and R\S\T\ pins in the complete absence of V1. If V1 is present, the greater of VCC or V1 (VMAX) powers the internal circuitry and the (See Datasheet)", 5 V1 (in) "Voltage Input 1. Select from 5V, 3.3V or 2.5V. Refer to Table 1 for details. The greater of (V1, VCC) is also the internal VCC (VMAX). Bypass this pin to ground with a 0.1uF (or greater) capacitor.", 6 VADJ (in) "Adjustable Voltage Input. Bypass this pin to ground with a 0.1uF (or greater) capacitor in a noisy environment.", 7 S1 (in) "The Voltage Threshold Select Three- State Input. Connect to V1, GND or leave unconnected in open state to select one of three possible input threshold levels (refer to Table 1).", 8 TOL (in) "Three-State Input for Supply Tolerance Selection (5%, 7.5% or 10%). Refer to Applications Information for tolerance selection chart (Table 3).", 9 EP (power) "Ground."

## LTC2907IDDB#TRM
designator U?
Precision Dual Supply Monitor with One Pin-Selectable Threshold and One Adjustable Input, 8-pin SON (DDB-8), -40 to 85 degC, Mini Tape and Reel; Manufacturer: Linear Technology; PartNumber: LTC2907IDDB#TRM; Number of Supplies(#): 2; PackageVersion: Rev. B, 06/2010; PackageReference: DDB-8; PackageDescription: 8-Pin Plastic DFN, Body 3 x 2 mm, Pitch 0.5 mm; Supplier 1: Digi-Key; Supplier Part Number 1: LTC2907IDDB#TRM-ND; Packing: Mini Tape and Reel; RoHS: FALSE; Mounting Technology: Surface Mount; Code_JEDEC: MO-229; ComponentLink1Description: Manufacturer URL; ComponentLink1URL: http://www.linear.com/; ComponentLink2Description: Datasheet; ComponentLink2URL: http://cds.linear.com/docs/en/datasheet/29067f.pdf; ComponentLink3Description: Package Specification; ComponentLink3URL: http://cds.linear.com/docs/en/packaging/DFN_8_05-08-1702.pdf
footprint LT-DDB-8_V (SON, 8-Leads, Body 3x2mm, Pitch 0.5mm, Thermal Pad 2.2x0.61mm)
pins: 1 GND (power) "Ground.", 2 ~{RST} (oc) "Inverted Reset Logic Output. Pulls low when either V1 or VADJ is below the reset threshold and holds low for programmed delay time after all voltage inputs are above threshold. This pin has a weak pull up to VMAX and may be (See Datasheet)", 3 TMR (in) "(LTC2907 Only) Reset Delay Time Programming Pin. Attach an external capacitor (CTMR) to GND to set a reset delay time of 9ms/nF. Leaving the pin open generates a minimum delay of approximately 200ms. A 22nF capacitor will (See Datasheet)", 4 VCC (power) "Optional Power Supply Pin. VCC powers and maintains the correct operation of the RST and R\S\T\ pins in the complete absence of V1. If V1 is present, the greater of VCC or V1 (VMAX) powers the internal circuitry and the (See Datasheet)", 5 V1 (in) "Voltage Input 1. Select from 5V, 3.3V or 2.5V. Refer to Table 1 for details. The greater of (V1, VCC) is also the internal VCC (VMAX). Bypass this pin to ground with a 0.1uF (or greater) capacitor.", 6 VADJ (in) "Adjustable Voltage Input. Bypass this pin to ground with a 0.1uF (or greater) capacitor in a noisy environment.", 7 S1 (in) "The Voltage Threshold Select Three- State Input. Connect to V1, GND or leave unconnected in open state to select one of three possible input threshold levels (refer to Table 1).", 8 TOL (in) "Three-State Input for Supply Tolerance Selection (5%, 7.5% or 10%). Refer to Applications Information for tolerance selection chart (Table 3).", 9 EP (power) "Ground."

## LTC2907IDDB#TRMPBF
designator U?
Precision Dual Supply Monitor with One Pin-Selectable Threshold and One Adjustable Input, 8-pin SON (DDB-8), -40 to 85 degC, Pb-Free, Mini Tape and Reel; Manufacturer: Linear Technology; PartNumber: LTC2907IDDB#TRMPBF; Number of Supplies(#): 2; PackageVersion: Rev. B, 06/2010; PackageReference: DDB-8; PackageDescription: 8-Pin Plastic DFN, Body 3 x 2 mm, Pitch 0.5 mm; Supplier 1: Digi-Key; Supplier Part Number 1: LTC2907IDDB#TRMPBF-ND; Packing: Mini Tape and Reel; RoHS: TRUE; Mounting Technology: Surface Mount; Code_JEDEC: MO-229; ComponentLink1Description: Manufacturer URL; ComponentLink1URL: http://www.linear.com/; ComponentLink2Description: Datasheet; ComponentLink2URL: http://cds.linear.com/docs/en/datasheet/29067f.pdf; ComponentLink3Description: Package Specification; ComponentLink3URL: http://cds.linear.com/docs/en/packaging/DFN_8_05-08-1702.pdf
footprint LT-DDB-8_V (SON, 8-Leads, Body 3x2mm, Pitch 0.5mm, Thermal Pad 2.2x0.61mm)
pins: 1 GND (power) "Ground.", 2 ~{RST} (oc) "Inverted Reset Logic Output. Pulls low when either V1 or VADJ is below the reset threshold and holds low for programmed delay time after all voltage inputs are above threshold. This pin has a weak pull up to VMAX and may be (See Datasheet)", 3 TMR (in) "(LTC2907 Only) Reset Delay Time Programming Pin. Attach an external capacitor (CTMR) to GND to set a reset delay time of 9ms/nF. Leaving the pin open generates a minimum delay of approximately 200ms. A 22nF capacitor will (See Datasheet)", 4 VCC (power) "Optional Power Supply Pin. VCC powers and maintains the correct operation of the RST and R\S\T\ pins in the complete absence of V1. If V1 is present, the greater of VCC or V1 (VMAX) powers the internal circuitry and the (See Datasheet)", 5 V1 (in) "Voltage Input 1. Select from 5V, 3.3V or 2.5V. Refer to Table 1 for details. The greater of (V1, VCC) is also the internal VCC (VMAX). Bypass this pin to ground with a 0.1uF (or greater) capacitor.", 6 VADJ (in) "Adjustable Voltage Input. Bypass this pin to ground with a 0.1uF (or greater) capacitor in a noisy environment.", 7 S1 (in) "The Voltage Threshold Select Three- State Input. Connect to V1, GND or leave unconnected in open state to select one of three possible input threshold levels (refer to Table 1).", 8 TOL (in) "Three-State Input for Supply Tolerance Selection (5%, 7.5% or 10%). Refer to Applications Information for tolerance selection chart (Table 3).", 9 EP (power) "Ground."

## LTC2907IDDB#TRPBF
designator U?
Precision Dual Supply Monitor with One Pin-Selectable Threshold and One Adjustable Input, 8-pin SON (DDB-8), -40 to 85 degC, Pb-Free, Tape and Reel; Manufacturer: Linear Technology; PartNumber: LTC2907IDDB#TRPBF; Number of Supplies(#): 2; PackageVersion: Rev. B, 06/2010; PackageReference: DDB-8; PackageDescription: 8-Pin Plastic DFN, Body 3 x 2 mm, Pitch 0.5 mm; Supplier 1: Digi-Key; Supplier Part Number 1: LTC2907IDDB#TRPBF-ND; Packing: Tape and Reel; RoHS: TRUE; Mounting Technology: Surface Mount; Code_JEDEC: MO-229; ComponentLink1Description: Manufacturer URL; ComponentLink1URL: http://www.linear.com/; ComponentLink2Description: Datasheet; ComponentLink2URL: http://cds.linear.com/docs/en/datasheet/29067f.pdf; ComponentLink3Description: Package Specification; ComponentLink3URL: http://cds.linear.com/docs/en/packaging/DFN_8_05-08-1702.pdf
footprint LT-DDB-8_V (SON, 8-Leads, Body 3x2mm, Pitch 0.5mm, Thermal Pad 2.2x0.61mm)
pins: 1 GND (power) "Ground.", 2 ~{RST} (oc) "Inverted Reset Logic Output. Pulls low when either V1 or VADJ is below the reset threshold and holds low for programmed delay time after all voltage inputs are above threshold. This pin has a weak pull up to VMAX and may be (See Datasheet)", 3 TMR (in) "(LTC2907 Only) Reset Delay Time Programming Pin. Attach an external capacitor (CTMR) to GND to set a reset delay time of 9ms/nF. Leaving the pin open generates a minimum delay of approximately 200ms. A 22nF capacitor will (See Datasheet)", 4 VCC (power) "Optional Power Supply Pin. VCC powers and maintains the correct operation of the RST and R\S\T\ pins in the complete absence of V1. If V1 is present, the greater of VCC or V1 (VMAX) powers the internal circuitry and the (See Datasheet)", 5 V1 (in) "Voltage Input 1. Select from 5V, 3.3V or 2.5V. Refer to Table 1 for details. The greater of (V1, VCC) is also the internal VCC (VMAX). Bypass this pin to ground with a 0.1uF (or greater) capacitor.", 6 VADJ (in) "Adjustable Voltage Input. Bypass this pin to ground with a 0.1uF (or greater) capacitor in a noisy environment.", 7 S1 (in) "The Voltage Threshold Select Three- State Input. Connect to V1, GND or leave unconnected in open state to select one of three possible input threshold levels (refer to Table 1).", 8 TOL (in) "Three-State Input for Supply Tolerance Selection (5%, 7.5% or 10%). Refer to Applications Information for tolerance selection chart (Table 3).", 9 EP (power) "Ground."